# Altium schematic symbol library pmd_davinci_adapter.SCHLIB: 5 symbols
Pins are listed as number, name and electrical type; pins without a type are passive.

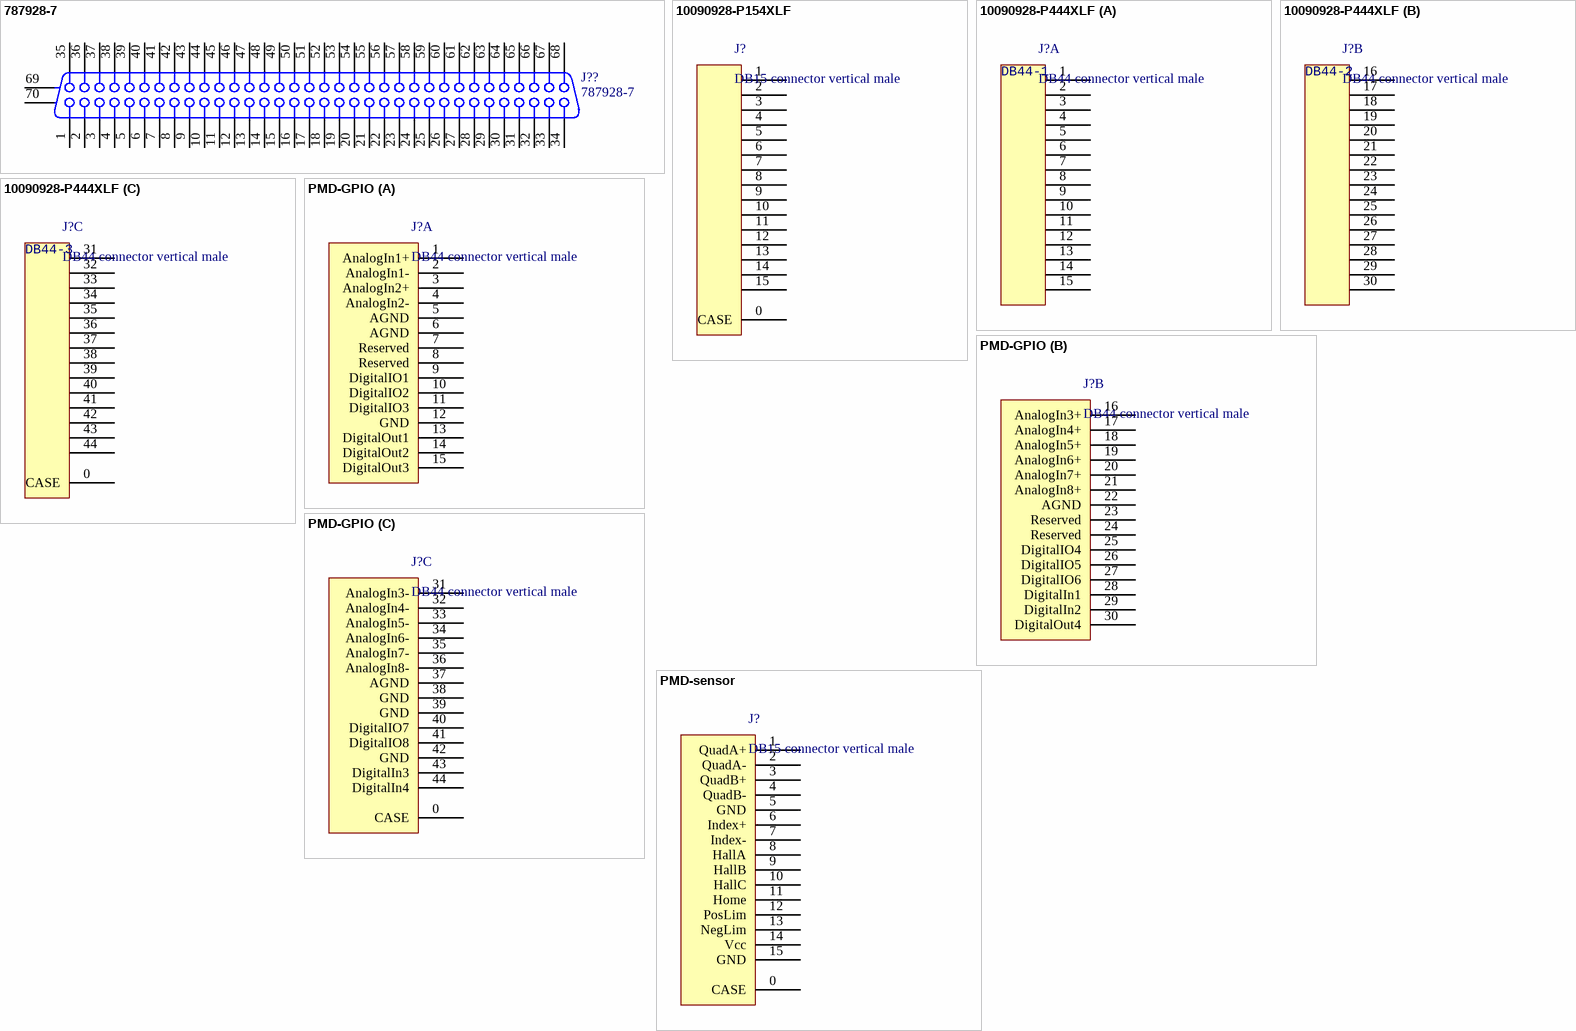
[diagram p0: symbols 787928-7 to PMD-sensor]

## 787928-7
designator J??
Receptacle Assembly, Shielded, Right Angle, AMPLIMITE; Positions: 68; Note: Series III; Gender: Receptacle Header; Note: With Mating Lock; PCB_Layout: Complies with manufacturer's recommendation.; DrillSize: Corresponds to nominal value.; Published: 17-Jul-2002; DatasheetDocument: 13-Jan-2000; PackageDocument: 13-Jan-2000; PackageReference: 787928-7; Publisher: Altium Limited; Orientation: Right Angle; ComponentLink1Description: Manufacturer Link; ComponentLink1URL: http://www.tycoelectronics.com/; ComponentLink2Description: Packaging Specification; ComponentLink2URL: http://ecommas.tycoelectronics.com/commerce/DocumentDelivery/DDEController?Action=showdoc&DocId=Customer+Drawing%7F787928%7FE%7Fpdf%7FEnglish%7FENG_CD_787928_E.pdf; ComponentLink3Description: URL Link1; ComponentLink3URL: http://catalog.tycoelectronics.com/TE/docs/cadgeo/2/25/41522.tar.gz
footprint 787928-7 (Connector; D Subminiature 050 Series; 68 Position; Right Angle)
signal-integrity model D Subminiature
pins: 1, 2, 3, 4, 5, 6, 7, 8, 9, 10, 11, 12, 13, 14, 15, 16, 17, 18, 19, 20, 21, 22, 23, 24, 25, 26, 27, 28, 29, 30, 31, 32, 33, 34, 35, 36, 37, 38, 39, 40, 41, 42, 43, 44, 45, 46, 47, 48, 49, 50, 51, 52, 53, 54, 55, 56, 57, 58, 59, 60, 61, 62, 63, 64, 65, 66, 67, 68, 69 MH1, 70 MH2

## 10090928-P154XLF
designator J?, comment DB15 connector vertical male
footprint 10090928-P154XLF
pins: 0 CASE, 1, 2, 3, 4, 5, 6, 7, 8, 9, 10, 11, 12, 13, 14, 15

## 10090928-P444XLF
designator J?, comment DB44 connector vertical male
footprint 10090928-P444XLF
part A pins: 1, 2, 3, 4, 5, 6, 7, 8, 9, 10, 11, 12, 13, 14, 15
part B pins: 16, 17, 18, 19, 20, 21, 22, 23, 24, 25, 26, 27, 28, 29, 30
part C pins: 0 CASE, 31, 32, 33, 34, 35, 36, 37, 38, 39, 40, 41, 42, 43, 44
part A text: DB44-1
part B text: DB44-2
part C text: DB44-3

## PMD-GPIO
designator J?, comment DB44 connector vertical male
footprint 10090928-P444XLF
part A pins: 1 AnalogIn1+, 2 AnalogIn1-, 3 AnalogIn2+, 4 AnalogIn2-, 5 AGND, 6 AGND, 7 Reserved, 8 Reserved, 9 DigitalIO1, 10 DigitalIO2, 11 DigitalIO3, 12 GND, 13 DigitalOut1, 14 DigitalOut2, 15 DigitalOut3
part B pins: 16 AnalogIn3+, 17 AnalogIn4+, 18 AnalogIn5+, 19 AnalogIn6+, 20 AnalogIn7+, 21 AnalogIn8+, 22 AGND, 23 Reserved, 24 Reserved, 25 DigitalIO4, 26 DigitalIO5, 27 DigitalIO6, 28 DigitalIn1, 29 DigitalIn2, 30 DigitalOut4
part C pins: 0 CASE, 31 AnalogIn3-, 32 AnalogIn4-, 33 AnalogIn5-, 34 AnalogIn6-, 35 AnalogIn7-, 36 AnalogIn8-, 37 AGND, 38 GND, 39 GND, 40 DigitalIO7, 41 DigitalIO8, 42 GND, 43 DigitalIn3, 44 DigitalIn4

## PMD-sensor
designator J?, comment DB15 connector vertical male
footprint 10090928-P154XLF
pins: 0 CASE, 1 QuadA+, 2 QuadA-, 3 QuadB+, 4 QuadB-, 5 GND, 6 Index+, 7 Index-, 8 HallA, 9 HallB, 10 HallC, 11 Home, 12 PosLim, 13 NegLim, 14 Vcc, 15 GND